# EAGLE library part TPS563200 (library _mtvl.power)
TPS56x200 4.5-V to 17-V Input, 2-A, 3-A Synchronous Step-down Voltage Regulator in 6-Pin SOT-23 Check availability <https://www.chipdip.ru/product/tps563200ddct>
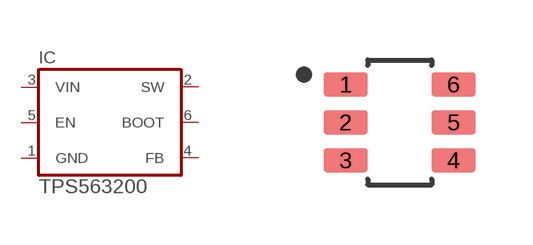
[diagram p21: symbol with the pads of TSOT-23-6; footprint TSOT-23-6]

Designator prefix IC

## TPS563200 (MF: Texas Instruments; PACKAGE: SOT-23-THN-6; PURCHASE-URL: https://www.chipdip.ru/product/tps563200ddctterm=None)  [TSOT-23-6]
1  GND  pwr
2  SW  out
3  VIN  in
4  FB  in
5  EN  in
6  BOOT  out

## Footprint TSOT-23-6 (pad centres in mm)
smd 1.1 x 0.6: 1 -1.35,0.95; 2 -1.35,0; 3 -1.35,-0.95; 4 1.35,-0.95; 5 1.35,0; 6 1.35,0.95